# EAGLE library part XCV150_PQ240 (library xilinx-xcv)
xcv150_pq240 edit this description Auto generated by make-symbol-device-package-bsdl.ulp Rev. 26 Source: xcv150_pq240.bsd
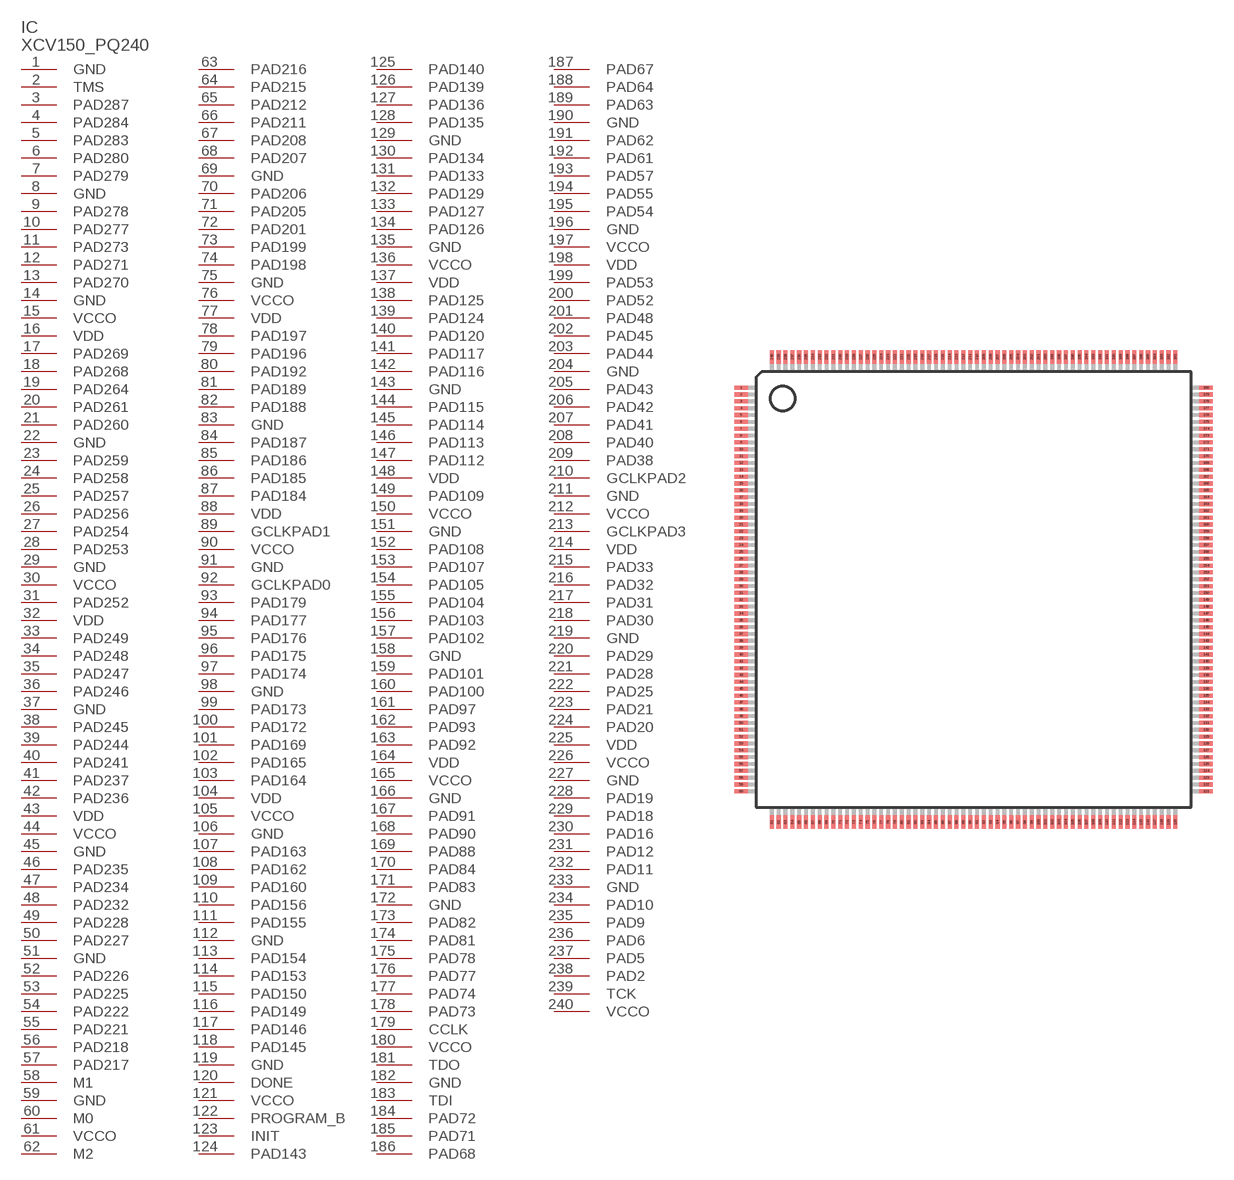
[diagram p33: symbol with the pads of PQ240; footprint PQ240]

Designator prefix IC

## XCV150_PQ240  [PQ240]
1  GND  pwr
2  TMS  in
3  PAD287
4  PAD284
5  PAD283
6  PAD280
7  PAD279
8  GND  pwr
9  PAD278
10  PAD277
11  PAD273
12  PAD271
13  PAD270
14  GND  pwr
15  VCCO  pwr
16  VDD  pwr
17  PAD269
18  PAD268
19  PAD264
20  PAD261
21  PAD260
22  GND  pwr
23  PAD259
24  PAD258
25  PAD257
26  PAD256
27  PAD254
28  PAD253
29  GND  pwr
30  VCCO  pwr
31  PAD252
32  VDD  pwr
33  PAD249
34  PAD248
35  PAD247
36  PAD246
37  GND  pwr
38  PAD245
39  PAD244
40  PAD241
41  PAD237
42  PAD236
43  VDD  pwr
44  VCCO  pwr
45  GND  pwr
46  PAD235
47  PAD234
48  PAD232
49  PAD228
50  PAD227
51  GND  pwr
52  PAD226
53  PAD225
54  PAD222
55  PAD221
56  PAD218
57  PAD217
58  M1  in
59  GND  pwr
60  M0  in
61  VCCO  pwr
62  M2  in
63  PAD216
64  PAD215
65  PAD212
66  PAD211
67  PAD208
68  PAD207
69  GND  pwr
70  PAD206
71  PAD205
72  PAD201
73  PAD199
74  PAD198
75  GND  pwr
76  VCCO  pwr
77  VDD  pwr
78  PAD197
79  PAD196
80  PAD192
81  PAD189
82  PAD188
83  GND  pwr
84  PAD187
85  PAD186
86  PAD185
87  PAD184
88  VDD  pwr
89  GCLKPAD1  in
90  VCCO  pwr
91  GND  pwr
92  GCLKPAD0  in
93  PAD179
94  PAD177
95  PAD176
96  PAD175
97  PAD174
98  GND  pwr
99  PAD173
100  PAD172
101  PAD169
102  PAD165
103  PAD164
104  VDD  pwr
105  VCCO  pwr
106  GND  pwr
107  PAD163
108  PAD162
109  PAD160
110  PAD156
111  PAD155
112  GND  pwr
113  PAD154
114  PAD153
115  PAD150
116  PAD149
117  PAD146
118  PAD145
119  GND  pwr
120  DONE
121  VCCO  pwr
122  PROGRAM_B  in
123  INIT
124  PAD143
125  PAD140
126  PAD139
127  PAD136
128  PAD135
129  GND  pwr
130  PAD134
131  PAD133
132  PAD129
133  PAD127
134  PAD126
135  GND  pwr
136  VCCO  pwr
137  VDD  pwr
138  PAD125
139  PAD124
140  PAD120
141  PAD117
142  PAD116
143  GND  pwr
144  PAD115
145  PAD114
146  PAD113
147  PAD112
148  VDD  pwr
149  PAD109
150  VCCO  pwr
151  GND  pwr
152  PAD108
153  PAD107
154  PAD105
155  PAD104
156  PAD103
157  PAD102
158  GND  pwr
159  PAD101
160  PAD100
161  PAD97
162  PAD93
163  PAD92
164  VDD  pwr
165  VCCO  pwr
166  GND  pwr
167  PAD91
168  PAD90
169  PAD88
170  PAD84
171  PAD83
172  GND  pwr
173  PAD82
174  PAD81
175  PAD78
176  PAD77
177  PAD74
178  PAD73
179  CCLK
180  VCCO  pwr
181  TDO  out
182  GND  pwr
183  TDI  in
184  PAD72
185  PAD71
186  PAD68
187  PAD67
188  PAD64
189  PAD63
190  GND  pwr
191  PAD62
192  PAD61
193  PAD57
194  PAD55
195  PAD54
196  GND  pwr
197  VCCO  pwr
198  VDD  pwr
199  PAD53
200  PAD52
201  PAD48
202  PAD45
203  PAD44
204  GND  pwr
205  PAD43
206  PAD42
207  PAD41
208  PAD40
209  PAD38
210  GCLKPAD2  in
211  GND  pwr
212  VCCO  pwr
213  GCLKPAD3  in
214  VDD  pwr
215  PAD33
216  PAD32
217  PAD31
218  PAD30
219  GND  pwr
220  PAD29
221  PAD28
222  PAD25
223  PAD21
224  PAD20
225  VDD  pwr
226  VCCO  pwr
227  GND  pwr
228  PAD19
229  PAD18
230  PAD16
231  PAD12
232  PAD11
233  GND  pwr
234  PAD10
235  PAD9
236  PAD6
237  PAD5
238  PAD2
239  TCK  in
240  VCCO  pwr

## Footprint PQ240 (pad centres in mm)
PQ240 Auto generated by make-symbol-device-package-bsdl.ulp Rev. 26
smd 1 x 0.3: 1 -17,14.75; 2 -17,14.25; 3 -17,13.75; 4 -17,13.25; 5 -17,12.75; 6 -17,12.25; 7 -17,11.75; 8 -17,11.25; 9 -17,10.75; 10 -17,10.25; 11 -17,9.75; 12 -17,9.25; 13 -17,8.75; 14 -17,8.25; 15 -17,7.75; 16 -17,7.25; 17 -17,6.75; 18 -17,6.25; 19 -17,5.75; 20 -17,5.25; 21 -17,4.75; 22 -17,4.25; 23 -17,3.75; 24 -17,3.25; 25 -17,2.75; 26 -17,2.25; 27 -17,1.75; 28 -17,1.25; 29 -17,0.75; 30 -17,0.25; 31 -17,-0.25; 32 -17,-0.75; 33 -17,-1.25; 34 -17,-1.75; 35 -17,-2.25; 36 -17,-2.75; 37 -17,-3.25; 38 -17,-3.75; 39 -17,-4.25; 40 -17,-4.75; 41 -17,-5.25; 42 -17,-5.75; 43 -17,-6.25; 44 -17,-6.75; 45 -17,-7.25; 46 -17,-7.75; 47 -17,-8.25; 48 -17,-8.75; 49 -17,-9.25; 50 -17,-9.75; 51 -17,-10.25; 52 -17,-10.75; 53 -17,-11.25; 54 -17,-11.75; 55 -17,-12.25; 56 -17,-12.75; 57 -17,-13.25; 58 -17,-13.75; 59 -17,-14.25; 60 -17,-14.75; 121 17,-14.75; 122 17,-14.25; 123 17,-13.75; 124 17,-13.25; 125 17,-12.75; 126 17,-12.25; 127 17,-11.75; 128 17,-11.25; 129 17,-10.75; 130 17,-10.25; 131 17,-9.75; 132 17,-9.25; 133 17,-8.75; 134 17,-8.25; 135 17,-7.75; 136 17,-7.25; 137 17,-6.75; 138 17,-6.25; 139 17,-5.75; 140 17,-5.25; 141 17,-4.75; 142 17,-4.25; 143 17,-3.75; 144 17,-3.25; 145 17,-2.75; 146 17,-2.25; 147 17,-1.75; 148 17,-1.25; 149 17,-0.75; 150 17,-0.25; 151 17,0.25; 152 17,0.75; 153 17,1.25; 154 17,1.75; 155 17,2.25; 156 17,2.75; 157 17,3.25; 158 17,3.75; 159 17,4.25; 160 17,4.75; 161 17,5.25; 162 17,5.75; 163 17,6.25; 164 17,6.75; 165 17,7.25; 166 17,7.75; 167 17,8.25; 168 17,8.75; 169 17,9.25; 170 17,9.75; 171 17,10.25; 172 17,10.75; 173 17,11.25; 174 17,11.75; 175 17,12.25; 176 17,12.75; 177 17,13.25; 178 17,13.75; 179 17,14.25; 180 17,14.75
smd 0.3 x 1: 61 -14.75,-17; 62 -14.25,-17; 63 -13.75,-17; 64 -13.25,-17; 65 -12.75,-17; 66 -12.25,-17; 67 -11.75,-17; 68 -11.25,-17; 69 -10.75,-17; 70 -10.25,-17; 71 -9.75,-17; 72 -9.25,-17; 73 -8.75,-17; 74 -8.25,-17; 75 -7.75,-17; 76 -7.25,-17; 77 -6.75,-17; 78 -6.25,-17; 79 -5.75,-17; 80 -5.25,-17; 81 -4.75,-17; 82 -4.25,-17; 83 -3.75,-17; 84 -3.25,-17; 85 -2.75,-17; 86 -2.25,-17; 87 -1.75,-17; 88 -1.25,-17; 89 -0.75,-17; 90 -0.25,-17; 91 0.25,-17; 92 0.75,-17; 93 1.25,-17; 94 1.75,-17; 95 2.25,-17; 96 2.75,-17; 97 3.25,-17; 98 3.75,-17; 99 4.25,-17; 100 4.75,-17; 101 5.25,-17; 102 5.75,-17; 103 6.25,-17; 104 6.75,-17; 105 7.25,-17; 106 7.75,-17; 107 8.25,-17; 108 8.75,-17; 109 9.25,-17; 110 9.75,-17; 111 10.25,-17; 112 10.75,-17; 113 11.25,-17; 114 11.75,-17; 115 12.25,-17; 116 12.75,-17; 117 13.25,-17; 118 13.75,-17; 119 14.25,-17; 120 14.75,-17; 181 14.75,17; 182 14.25,17; 183 13.75,17; 184 13.25,17; 185 12.75,17; 186 12.25,17; 187 11.75,17; 188 11.25,17; 189 10.75,17; 190 10.25,17; 191 9.75,17; 192 9.25,17; 193 8.75,17; 194 8.25,17; 195 7.75,17; 196 7.25,17; 197 6.75,17; 198 6.25,17; 199 5.75,17; 200 5.25,17; 201 4.75,17; 202 4.25,17; 203 3.75,17; 204 3.25,17; 205 2.75,17; 206 2.25,17; 207 1.75,17; 208 1.25,17; 209 0.75,17; 210 0.25,17; 211 -0.25,17; 212 -0.75,17; 213 -1.25,17; 214 -1.75,17; 215 -2.25,17; 216 -2.75,17; 217 -3.25,17; 218 -3.75,17; 219 -4.25,17; 220 -4.75,17; 221 -5.25,17; 222 -5.75,17; 223 -6.25,17; 224 -6.75,17; 225 -7.25,17; 226 -7.75,17; 227 -8.25,17; 228 -8.75,17; 229 -9.25,17; 230 -9.75,17; 231 -10.25,17; 232 -10.75,17; 233 -11.25,17; 234 -11.75,17; 235 -12.25,17; 236 -12.75,17; 237 -13.25,17; 238 -13.75,17; 239 -14.25,17; 240 -14.75,17